# EAGLE library part LMK00804B (library quad-ref-clock)
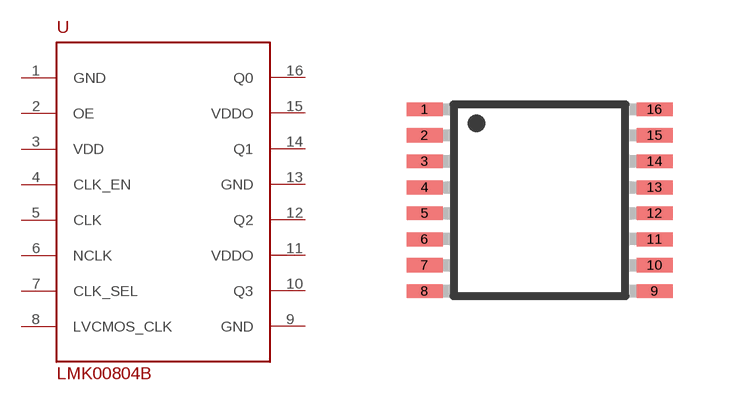
[diagram p0: symbol with the pads of LMK00804B; footprint LMK00804B]

Designator prefix -

## LMK00804B  [LMK00804B]
1  GND  pwr
2  OE  in
3  VDD  pwr
4  CLK_EN  in
5  CLK  in
6  NCLK  in
7  CLK_SEL  in
8  LVCMOS_CLK  in
9  GND  pwr
10  Q3  out
11  VDDO  pwr
12  Q2  out
13  GND  pwr
14  Q1  out
15  VDDO  pwr
16  Q0  out

## Footprint LMK00804B (pad centres in mm)
smd 0.9 x 0.35: 1 -2.875,2.275; 2 -2.875,1.625; 3 -2.875,0.975; 4 -2.875,0.325; 5 -2.875,-0.325; 6 -2.875,-0.975; 7 -2.875,-1.625; 8 -2.875,-2.275; 9 2.875,-2.275; 10 2.875,-1.625; 11 2.875,-0.975; 12 2.875,-0.325; 13 2.875,0.325; 14 2.875,0.975; 15 2.875,1.625; 16 2.875,2.275